# Altium integrated library PERSEUS.IntLib: 45 symbols
Pins are listed as number, name and electrical type; pins without a type are passive.

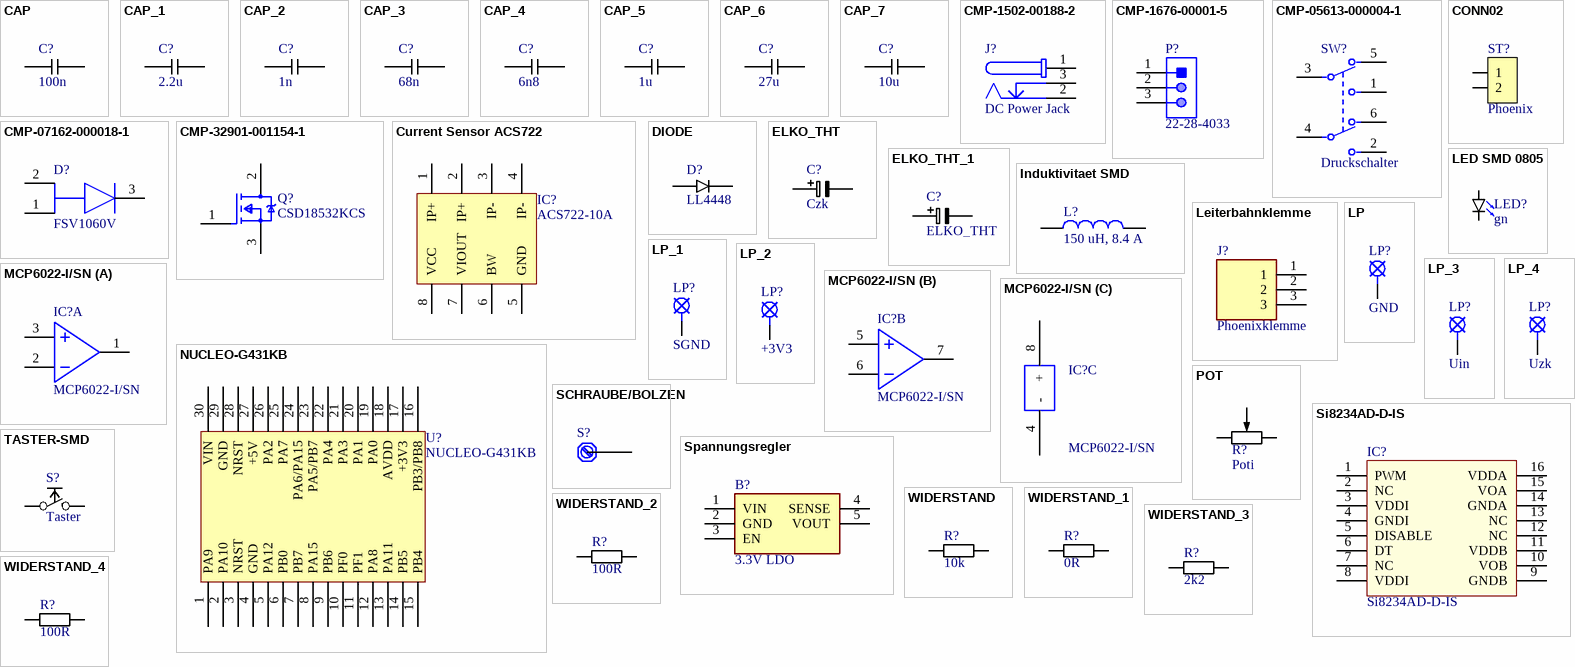
[diagram p0: symbols CAP to WIDERSTAND_4]

## CAP
designator C?, comment 100n
Kondensator (ohne Polarität)
footprint 1206_C (Passiv)
pins: 1, 2

## CAP_1
designator C?, comment 2.2u
Min 2.2uF
footprint 1206_C (Passiv)
pins: 1, 2

## CAP_2
designator C?, comment 1n
Kondensator (ohne Polarität)
footprint 1206_C (Passiv)
pins: 1, 2

## CAP_3
designator C?, comment 68n
Kondensator (ohne Polarität)
footprint 1206_C (Passiv)
pins: 1, 2

## CAP_4
designator C?, comment 6n8
Kondensator (ohne Polarität)
footprint 1206_C (Passiv)
pins: 1, 2

## CAP_5
designator C?, comment 1u
Kondensator (ohne Polarität)
footprint 1206_C (Passiv)
pins: 1, 2

## CAP_6
designator C?, comment 27u
Kondensator (ohne Polarität)
footprint 1206_C (Passiv)
pins: 1, 2

## CAP_7
designator C?, comment 10u
Kondensator (ohne Polarität)
footprint 1206_C (Passiv)
pins: 1, 2

## CMP-1502-00188-2
designator J?, comment DC Power Jack
NexarPartId: 52676100; Voltage Rating (DC): 20V; Gender: Male; Voltage Rating: 24V; Insulation Resistance: 100MΩ; Current Rating: 5A; Shielding: Unshielded; Number of Contacts: 3; Color: Black; Housing Material: Polyamide; Contact Gender: Female; Connector Type: Power; REACH SVHC: Unknown; Termination: Through Hole; Height: 11mm; RoHS: Compliant; Mount: Through Hole; Flammability Rating: UL94 V-0; Packaging: Bulk; Min Operating Temperature: -40°C; Contact Plating: Tin; Max Operating Temperature: 85°C; Operating Supply Voltage: 24V; Contact Material: Gold, Tin
footprint 694106301002 (DC Power Jack Connector WR-DC, Male, Right Angled, THT, 5 A, 24 V)
pins: 1, 2, 3

## CMP-1676-00001-5
designator P?, comment 22-28-4033
Stiftleiste 3 fach, Male Header, Pitch 2.54 mm, 1 x 3 Position, Height 8.38 mm, Tail Length 3.18 mm, RoHS, Bulk; Manufacturer: Molex; Rows: 1; Voltage Rating: 250 V; Current Rating: 4 A; Min Operating Temperature: 0 degC; Lead Pitch: 0.1 inch; Packaging: Bulk; Contact Finish: Gold; RoHSCompliant: true; Contact Material: Brass; PackageReference: 22-28-4033; REACH SVHC: Unknown; PackageDescription: Male Header, Pitch 2.54 mm, 1 x 3 Position, Height 8.38 mm, Tail Length 3.18 mm; ComponentLink2URL: http://www.molex.com/pdm_docs/sd/022284033_sd.pdf; Height: 8.38 mm; Mounting Technology: Through Hole; ComponentLink1Description: Manufacturer URL; Length: 7.62 mm; Mount: Through Hole; DatasheetVersion: Rev. G, 01/2012; Max Operating Temperature: 75 degC; ComponentLink2Description: Datasheet; Colour: Black; Pins: 3; Contact Plating: Gold; Package Quantity: 1; ComponentLink1URL: http://www.molex.com/
footprint MOLX-22-28-4033_V (THD, 3-Leads, Body 7.62x2.49mm, Pitch 2.54mm)
pins: 1, 2, 3

## CMP-05613-000004-1
designator SW?, comment Druckschalter
SWITCH PUSH DPDT 0.2A 14V; Switch Function: On-On; Contact Current Rating: 200mA; Actuator Type: Lever; Mount: Through Hole; Voltage Rating (DC): 14V; Package Quantity: 100; Orientation: Vertical; RoHS Compliant: Yes; Contact Plating: Silver; Packaging: Bulk; Radiation Hardening: No; Throw Configuration: DPDT; Termination: PC Pin; REACH SVHC: No SVHC; Max Operating Temperature: 80°C; Min Operating Temperature: -30°C; Lead Free: Lead Free; Current Rating: 200mA; Series: ESB33; Width: 10mm; Length: 10mm
footprint FP-ESB-33133-MFG
pins: 1 1 NO, 2 2 NO, 3 1 C, 4 2 C, 5 1 NC, 6 2 NC

## CMP-07162-000018-1
designator D?, comment FSV1060V
DIODE SCHOTTKY 60V 10A TO277-3; Manufacturer: ON Semiconductor; Max Junction Temp: +150°C; Max Surge Forward Current: 280A; Peak Reverse Current: 0.056mA; Capacitance: 550pF; Value: 550pF; Device Class L2: Diodes; RoHS: TRUE; Lead Free: Yes; Temperature Range High: +150°C; ComponentLink2URL: https://www.onsemi.com/pub/Collateral/FSV1060V-D.pdf; Temperature Range Low: -55°C; Max Repetitive Reverse Voltage: 60V; Footprint Url: https://www.onsemi.com/pub/Collateral/340BQ.PDF; Reverse Voltage: 60V; Device Class L1: Discrete Semiconductors; Octopart: https://octopart.com/fsv1060v-on+semiconductor-84328651; Height: 1.2mm; Digikey Description: DIODE SCHOTTKY 60V 10A TO277-3; ComponentLink2Description: Datasheet; Manufacturer Part Number: FSV1060V; Temperature: -55°C to +150°C; Package: 340BQ; Device Class L3: Schottky Diodes; Forward Current: 10A; Automotive: No; Mouser Description: Schottky Diodes & Rectifiers Schottky; Category: Diode
footprint FP-340BQ-MFG
pins: 1 Anode 1, 2 Anode 2, 3 C

## CMP-32901-001154-1
designator Q?, comment CSD18532KCS
MOSFET N-CH 60V 100A TO220; Polarization: N; Power Dissipation: 115W; Rds On Max: 16.5mR; Gate to Source Voltage (Vgs): 20V; Continuous Drain Current (ID): 55A; Threshold Voltage: 4V; Turn-On Delay Time: 13ns; Element Configuration: Single; Input Capacitance: 1.812nF; Turn-Off Delay Time: 40ns; Mount: Through Hole; Drain to Source Voltage (Vdss): 60V; Max Dual Supply Voltage: 60V; Length: 0.42inch; Height: 0.65inch; Width: 0.19inch; Packaging: Rail/Tube; Halogen Free: Halogen Free; Number of Pins: 3; Drain to Source Resistance: 16.5mR; Series: HEXFET®; RoHS Compliant: Yes; Reach SVHC Compliant: Yes; Drain to Source Breakdown Voltage: 60V; Max Operating Temperature: 175°C; Case/Package: TO-220; Max Power Dissipation: 115W; Lead Free: Lead Free; Min Operating Temperature: -55°C
footprint FP-PG-TO220-3-MFG
pins: 1 GATE, 2 DRAIN, 3 SOURCE

## CONN02
designator ST?, comment Phoenix
Phönix-Klemme
footprint MKDS 1,5/ 2 (Phoenis-Anschlussklemme 2 pol., Pitch: 5,08mm)
pins: 1, 2

## Current Sensor ACS722
designator IC?, comment ACS722-10A
ComponentLink1Description: Datasheet; ComponentLink1URL: https://ebs.eti.kit.edu/files/ebs_uploads/20170616-1458_Datenblatt_ACS722LLCTR-10AB-T.pdf
footprint SO08_N (IC SOIC Narrow)
pins: 1 IP+, 2 IP+, 3 IP-, 4 IP-, 5 GND, 6 BW, 7 VIOUT, 8 VCC

## DIODE
designator D?, comment LL4448
Diode (z.B. 1N4448)
footprint MINIMELF-SOD80 (Diode)
pins: 1 A, 2 K

## ELKO_THT
designator C?, comment Czk
Kondensator Elektrolyt
footprint ELKO_5MM_D12.5MM (Kondensator)
pins: 1, 2

## ELKO_THT_1
designator C?, comment ELKO_THT
Kondensator Elektrolyt
footprint ELKO_5MM_D12.5MM (Kondensator)
pins: 1, 2

## Induktivitaet SMD
designator L?, comment 150 uH, 8.4 A
SMT High Current Inductor WE-HCF, size 2920, 150 uH, 8.4 A; Part Number: 74437429203151; Rated Current: 8.4 A; Inductance: 150 uH; DC Resistance max.: 42.74 mOhm; Self Resonant Frequency: 3.8 MHz; Saturation Current: 7.8 A; ComponentLink1Description: Manufacturer; ComponentLink1URL: http://www.we-online.de; ComponentLink2Description: Datasheet; ComponentLink2URL: https://katalog.we-online.de/pbs/datasheet/74437429203151.pdf; Published Date: November 2018; Publisher: Wurth Elektronik; Size: 2920; Operating Temperature: -40 to 125 degC; Mounting Technology: SMT; Packaging: Tape and Reel
footprint WE-HCF_2920_Litz
pins: 1, 2

## LED SMD 0805
designator LED?, comment gn
LED SMD 0805 (gruen)
footprint 0805_DI_gr (Diode)
pins: 1 A, 2 K

## Leiterbahnklemme
designator J?, comment Phoenixklemme
Phoenix: Fixed Terminal Blocks 3P 7.5mm GMKDS 1,5/ 3; Manufacturer_Name: Phoenix Contact; Manufacturer_Part_Number: 1717033; Geometry.Height: 13.9mm; Mouser Part Number: 651-1717033; Mouser Price/Stock: https://www.mouser.co.uk/ProductDetail/Phoenix-Contact/1717033?qs=aYsvlkyO7qPHPfcN%252B81Plg%3D%3D; Arrow Part Number: 1717033; Arrow Price/Stock: https://www.arrow.com/en/products/1717033/phoenix-contact?utm_currency=USD&region=nac; Datasheet Link: https://media.digikey.com/pdf/Data%20Sheets/Phoenix%20Contact%20PDFs/1717033.pdf
footprint Phoenix_3er
pins: 1, 2, 3

## LP
designator LP?, comment GND
footprint LP1 (Sonstiges)
pins: 1

## LP_1
designator LP?, comment SGND
footprint LP1 (Sonstiges)
pins: 1

## LP_2
designator LP?, comment +3V3
footprint LP1 (Sonstiges)
pins: 1

## LP_3
designator LP?, comment Uin
footprint LP1 (Sonstiges)
pins: 1

## LP_4
designator LP?, comment Uzk
footprint LP1 (Sonstiges)
pins: 1

## MCP6022-I/SN
designator IC?
footprint SO08_N (IC SOIC Narrow)
part A pins: 1, 2, 3
part B pins: 5, 6, 7
part C pins: 4 -, 8 +

## NUCLEO-G431KB
designator U?
footprint NUCLEO-G431KB
pins: 1 PA9, 2 PA10, 3 NRST, 4 GND, 5 PA12, 6 PB0, 7 PB7, 8 PA15, 9 PB6, 10 PF0, 11 PF1, 12 PA8, 13 PA11, 14 PB5, 15 PB4, 16 PB3/PB8, 17 +3V3, 18 AVDD, 19 PA0, 20 PA1, 21 PA3, 22 PA4, 23 PA5/PB7, 24 PA6/PA15, 25 PA7, 26 PA2, 27 +5V, 28 NRST, 29 GND, 30 VIN

## POT
designator R?, comment Poti
Widerstand
footprint POT_T607_3D (PCB Potenziometer mit Drehknopf)
pins: 1, 2, W Abgriff

## SCHRAUBE/BOLZEN
designator S?
footprint M3 (Sonstiges)
pins: 1

## Si8234AD-D-IS
designator IC?
Gate-Treiber 5 kV 5 V UVLO HS/LS isolated gate driver with PWM input, deadtime with external resistor; EBS_Nummer: 8717; HelpURL: https://ebs.eti.kit.edu/Artikel/Detailansicht/8717
footprint SO16_W (IC SOIC Wide)
pins: 1 PWM, 2 NC, 3 VDDI, 4 GNDI, 5 DISABLE, 6 DT, 7 NC, 8 VDDI, 9 GNDB, 10 VOB, 11 VDDB, 12 NC, 13 NC, 14 GNDA, 15 VOA, 16 VDDA

## Spannungsregler
designator B?, comment 3.3V LDO
40V, 200mA, Low Noise, CMOS LDO Linear Regulator, ADPL44002AUJZ-3.3-R7; Manufacturer_Name: Analog Devices; Geometry.Height: 1mm; Mouser Part Number: 584-PL44002AUJZ33R7; Mouser Price/Stock: https://www.mouser.co.uk/ProductDetail/Analog-Devices/ADPL44002AUJZ-3.3-R7?qs=%252BXxaIXUDbq3bLG2Aqffs8Q%3D%3D; Manufacturer_Part_Number: ADPL44002AUJZ-3.3-R7; Datasheet Link: https://www.analog.com/ADPL44002/datasheet
footprint SOT95P280X100-5N
pins: 1 VIN, 2 GND, 3 EN, 4 SENSE, 5 VOUT

## TASTER-SMD
designator S?, comment Taster
footprint TASTERSMD_3D (Schalter)
pins: 1, 2

## WIDERSTAND
designator R?, comment 10k
LED Vorwiderstand: Min 1.4 kOhm Berechnet für 30V Uin und 2 V Spannungsabfall und If=20mA
footprint 1206_R (Passiv)
pins: 1, 2

## WIDERSTAND_1
designator R?, comment 0R
LED Vorwiderstand: Min 65 Ohm, Berechnet für 3.3V, 2V Spannungsabfall, 20mA Strom
footprint 1206_R (Passiv)
pins: 1, 2

## WIDERSTAND_2
designator R?, comment 100R
Widerstand
footprint 1206_R (Passiv)
pins: 1, 2

## WIDERSTAND_3
designator R?, comment 2k2
Widerstand
footprint 1206_R (Passiv)
pins: 1, 2

## WIDERSTAND_4
designator R?, comment 100R
LED Vorwiderstand: Min 65 Ohm, Berechnet für 3.3V, 2V Spannungsabfall, 20mA Strom
footprint 1206_R (Passiv)
pins: 1, 2

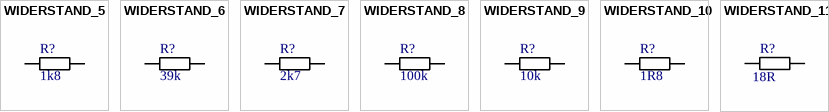
[diagram p1: symbols WIDERSTAND_5 to WIDERSTAND_11]

## WIDERSTAND_5
designator R?, comment 1k8
LED Vorwiderstand: Min 1.4 kOhm Berechnet für 30V Uin und 2 V Spannungsabfall und If=20mA
footprint 1206_R (Passiv)
pins: 1, 2

## WIDERSTAND_6
designator R?, comment 39k
Widerstand
footprint 1206_R (Passiv)
pins: 1, 2

## WIDERSTAND_7
designator R?, comment 2k7
Widerstand
footprint 1206_R (Passiv)
pins: 1, 2

## WIDERSTAND_8
designator R?, comment 100k
Widerstand
footprint 1206_R (Passiv)
pins: 1, 2

## WIDERSTAND_9
designator R?, comment 10k
Widerstand
footprint 1206_R (Passiv)
pins: 1, 2

## WIDERSTAND_10
designator R?, comment 1R8
Widerstand
footprint 1206_R (Passiv)
pins: 1, 2

## WIDERSTAND_11
designator R?, comment 18R
Widerstand
footprint 1206_R (Passiv)
pins: 1, 2